# Altium schematic symbol library Symbols.SchLib: 58 symbols
Pins are listed as number, name and electrical type; pins without a type are passive.

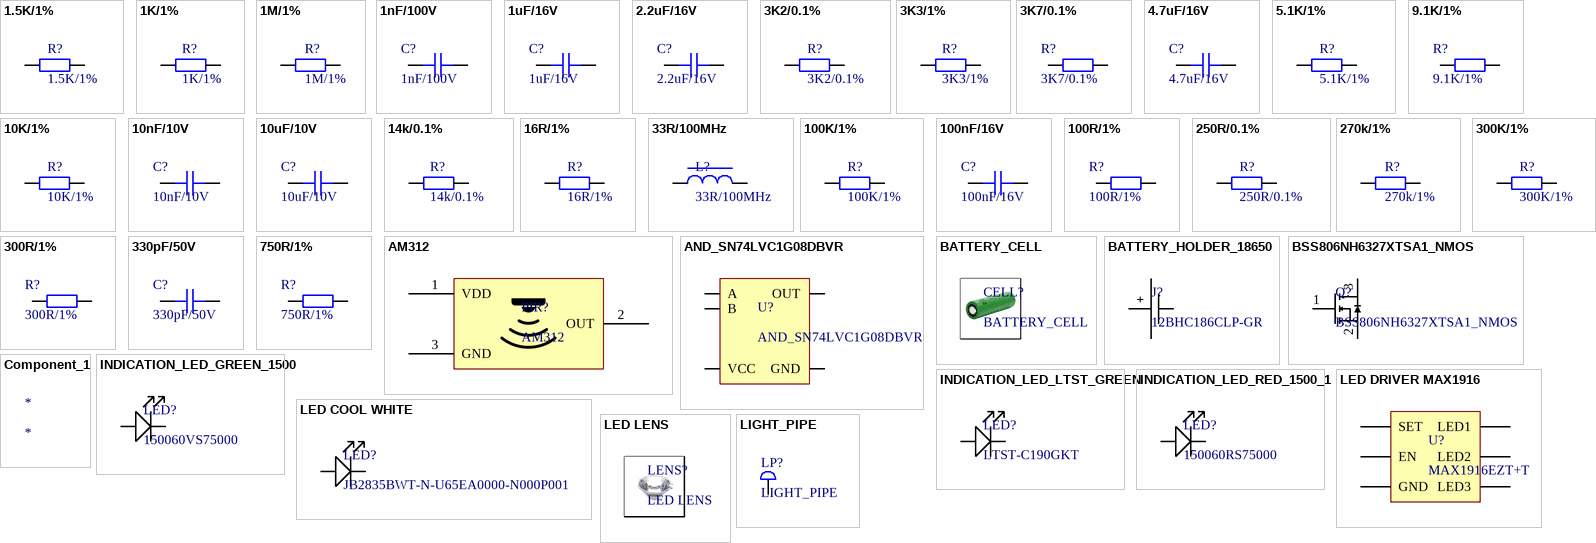
[diagram p0: symbols 1.5K/1% to LIGHT_PIPE]

## 1.5K/1%
designator R?
1.5 kOhms ±1% 0.1W, 1/10W Chip Resistor 0603 (1608 Metric) Automotive AEC-Q200 Thick Film; MPN: ERJ-3EKF1501V
footprint RES_0603
pins: 1, 2

## 1K/1%
designator R?
1 kOhms ±1% 0.1W, 1/10W Chip Resistor 0603 (1608 Metric) Moisture Resistant Thick Film; MPN: RC0603FR-071KL
footprint RES_0603
pins: 1, 2

## 1M/1%
designator R?
1 MOhms ±1% 0.1W, 1/10W Chip Resistor 0603 (1608 Metric) Automotive AEC-Q200 Thick Film; MPN: RMCF0603FT1M00
footprint RES_0603
pins: 1, 2

## 1nF/100V
designator C?
1 µF ±10% 10V Ceramic Capacitor X7R 0603 (1608 Metric); MPN: CL10B105KP8NNNC
footprint CAP_0603
pins: 1, 2

## 1uF/16V
designator C?
1 µF ±5% 16V Ceramic Capacitor X7R 0603 (1608 Metric); MPN: 0603YC105JAT2A
footprint CAP_0603
pins: 1, 2

## 2.2uF/16V
designator C?
2.2 µF ±10% 16V Ceramic Capacitor X7S 0603 (1608 Metric); MPN: GRM188C71C225KE11D
footprint CAP_0603
pins: 1, 2

## 3K2/0.1%
designator R?
3.2 kOhms ±0.1% 0.21W Chip Resistor 0603 (1608 Metric) Anti-Sulfur, Automotive AEC-Q200, Moisture Resistant Thin Film; MPN: TNPW06033K20BEEN
footprint RES_0603
pins: 1, 2

## 3K3/1%
designator R?
3.3 kOhms ±1% 0.1W, 1/10W Chip Resistor 0603 (1608 Metric) Automotive AEC-Q200 Thick Film; MPN: RMCF0603FT3K30
footprint RES_0603
pins: 1, 2

## 3K7/0.1%
designator R?
3.7 kOhms ±0.1% 0.125W, 1/8W Chip Resistor 0603 (1608 Metric) Automotive AEC-Q200, Moisture Resistant Thin Film; MPN: RN73R1JTTD3701B25
footprint RES_0603
pins: 1, 2

## 4.7uF/16V
designator C?
4.7 µF ±10% 16V Ceramic Capacitor X5R 0603 (1608 Metric); MPN: CL10A475KO8NNNC
footprint CAP_0603
pins: 1, 2

## 5.1K/1%
designator R?
5.1 kOhms ±1% 0.1W, 1/10W Chip Resistor 0603 (1608 Metric) Moisture Resistant Thick Film; MPN: RC0603FR-075K1L
footprint RES_0603
pins: 1, 2

## 9.1K/1%
designator R?
9.1 kOhms ±1% 0.1W, 1/10W Chip Resistor 0603 (1608 Metric) Thick Film; MPN: CRCW06039K10FKEAC
footprint RES_0603
pins: 1, 2

## 10K/1%
designator R?
10 kOhms ±1% 0.1W, 1/10W Chip Resistor 0603 (1608 Metric) Moisture Resistant Thick Film; MPN: CR0603-FX-1002ELF
footprint RES_0603
pins: 1, 2

## 10nF/10V
designator C?
10000 pF ±10% 50V Ceramic Capacitor X7R 0603 (1608 Metric); MPN: 0603B103K500CT
footprint CAP_0603
pins: 1, 2

## 10uF/10V
designator C?
10 µF ±10% 10V Ceramic Capacitor X5R 0603 (1608 Metric); MPN: CL10A106KP8NNNC
footprint CAP_0603
pins: 1, 2

## 14k/0.1%
designator R?
14 kOhms ±0.1% 0.5W, 1/2W Chip Resistor 0603 (1608 Metric) Thin Film; MPN: RA73F1J14KBTD
footprint RES_0603
pins: 1, 2

## 16R/1%
designator R?
16 Ohms ±1% 0.333W, 1/3W Chip Resistor 0603 (1608 Metric) Automotive AEC-Q200, Pulse Withstanding Thick Film; MPN: ERJ-PA3F16R0V
footprint RES_0603
pins: 1, 2

## 33R/100MHz
designator L?
33 Ohms @ 100 MHz 1 Power Line Ferrite Bead 0603 (1608 Metric) 3A 25mOhm; MPN: BLM18PG330SN1DBLM18PG330SN1D
footprint INDC_0603
pins: 1, 2

## 100K/1%
designator R?
100 kOhms ±1% 0.1W, 1/10W Chip Resistor 0603 (1608 Metric) Automotive AEC-Q200 Thick Film; MPN: ERJ-3EKF1003V
footprint RES_0603
pins: 1, 2

## 100nF/16V
designator C?
0.1 µF ±10% 16V Ceramic Capacitor X7R 0603 (1608 Metric); MPN: CC0603KRX7R7BB104
footprint CAP_0603
pins: 1, 2

## 100R/1%
designator R?
100 Ohms ±1% 0.1W, 1/10W Chip Resistor 0603 (1608 Metric) Automotive AEC-Q200 Thick Film; MPN: ERJ-3EKF1000V
footprint RES_0603
pins: 1, 2

## 250R/0.1%
designator R?
250 Ohms ±0.1% 0.1W, 1/10W Chip Resistor 0603 (1608 Metric) Thin Film; MPN: RT0603BRE07250RL
footprint RES_0603
pins: 1, 2

## 270k/1%
designator R?
270 kOhms ±1% 0.1W, 1/10W Chip Resistor 0603 (1608 Metric) Automotive AEC-Q200 Thick Film; MPN: ERJ-3EKF2703V
footprint RES_0603
pins: 1, 2

## 300K/1%
designator R?
300 kOhms ±1% 0.1W, 1/10W Chip Resistor 0603 (1608 Metric) Automotive AEC-Q200 Thick Film; MPN: RMCF0603FT300K
footprint RES_0603
pins: 1, 2

## 300R/1%
designator R?
300 Ohms ±1% 0.1W, 1/10W Chip Resistor 0603 (1608 Metric) Automotive AEC-Q200 Thick Film; MPN: ERJ-3EKF3000V
footprint RES_0603
pins: 1, 2

## 330pF/50V
designator C?
330 pF ±10% 50V Ceramic Capacitor X7R 0603 (1608 Metric); MPN: C0603C331K5RACTU
footprint CAP_0603
pins: 1, 2

## 750R/1%
designator R?
750 Ohms ±1% 0.1W, 1/10W Chip Resistor 0603 (1608 Metric) Automotive AEC-Q200 Thick Film; MPN: ERJ-3EKF7500V
footprint RES_0603
pins: 1, 2

## AM312
designator PIR?
AM312 PIR sensor; ComponentLink1Description: MPN; ComponentLink1URL: RAK12006-0-WB-N
footprint AM312
pins: 1 VDD, 2 OUT, 3 GND

## AND_SN74LVC1G08DBVR
designator U?
AND Gate IC 1 Channel SOT-23-5; MPN: SN74LVC1G08DBVR
footprint SOT23-5
pins: 1 A, 2 B, 3 GND, 4 OUT, 5 VCC

## BATTERY_CELL
designator CELL?  (mechanical)
CELL 18650 SAMSUNG 3200mAh; MPN: *

## BATTERY_HOLDER_18650
designator J?, comment 12BHC186CLP-GR
Cylindrical Battery Contacts, Clips, Holders & Springs 18650 Holder Board Mount Clip; MPN: 12BHC186CLP-GR
footprint BATTERY_HOLDER_18650
pins: 1 +, 2 -

## BSS806NH6327XTSA1_NMOS
designator Q?
N-Channel 20 V 2.3A (Ta) 500mW (Ta) Surface Mount PG-SOT23; MPN: BSS806NH6327XTSA1
footprint SOT23-3
pins: 1 11, 2, 3

## Component_1
designator *
MPN: *

## INDICATION_LED_GREEN_1500
designator LED?, comment 150060VS75000
Green 570nm LED Indication - Discrete 2V 0603 (1608 Metric); MPN: 150060VS75000
footprint LED_0603
pins: 1 Anode, 2 Cathode

## INDICATION_LED_LTST_GREEN
designator LED?, comment LTST-C190GKT
Green 569nm LED Indication - Discrete 2.1V 0603 (1608 Metric); MPN: LTST-C190GKT
footprint LED_0603
pins: 1 Anode, 2 Cathode

## INDICATION_LED_RED_1500_1
designator LED?, comment 150060RS75000
Red 625nm LED Indication - Discrete 2V 0603 (1608 Metric); MPN: 150060RS75000
footprint LED_0603
pins: 1 Anode, 2 Cathode

## LED COOL WHITE
designator LED?, comment JB2835BWT-N-U65EA0000-N000P001
LED Lighting J White, Cool 6500K 3-Step MacAdam Ellipse 2.7V 55mA 120° 1411 (3528 Metric); MPN: JB2835BWT-N-U65EA0000-N000P001
footprint LED_1411
pins: 1 Anode, 2 Cathode

## LED DRIVER MAX1916
designator U?, comment MAX1916EZT+T
LED Driver IC 3 Output Linear Dimming 60mA TSOT-23-6; MPN: MAX1916EZT+T
footprint SOT23-6
pins: 1 EN, 2 GND, 3 SET, 4 LED3, 5 LED2, 6 LED1

## LED LENS
designator LENS?  (net tie)
LENS CLR 15-33DEG MEDIUM SNAP-IN; MPN: 10003/15

## LIGHT_PIPE
designator LP?
Light pipe for indication led; MPN: VLP-400-F
footprint LIGHT_PIPE_VLP-400-F
pins: 1

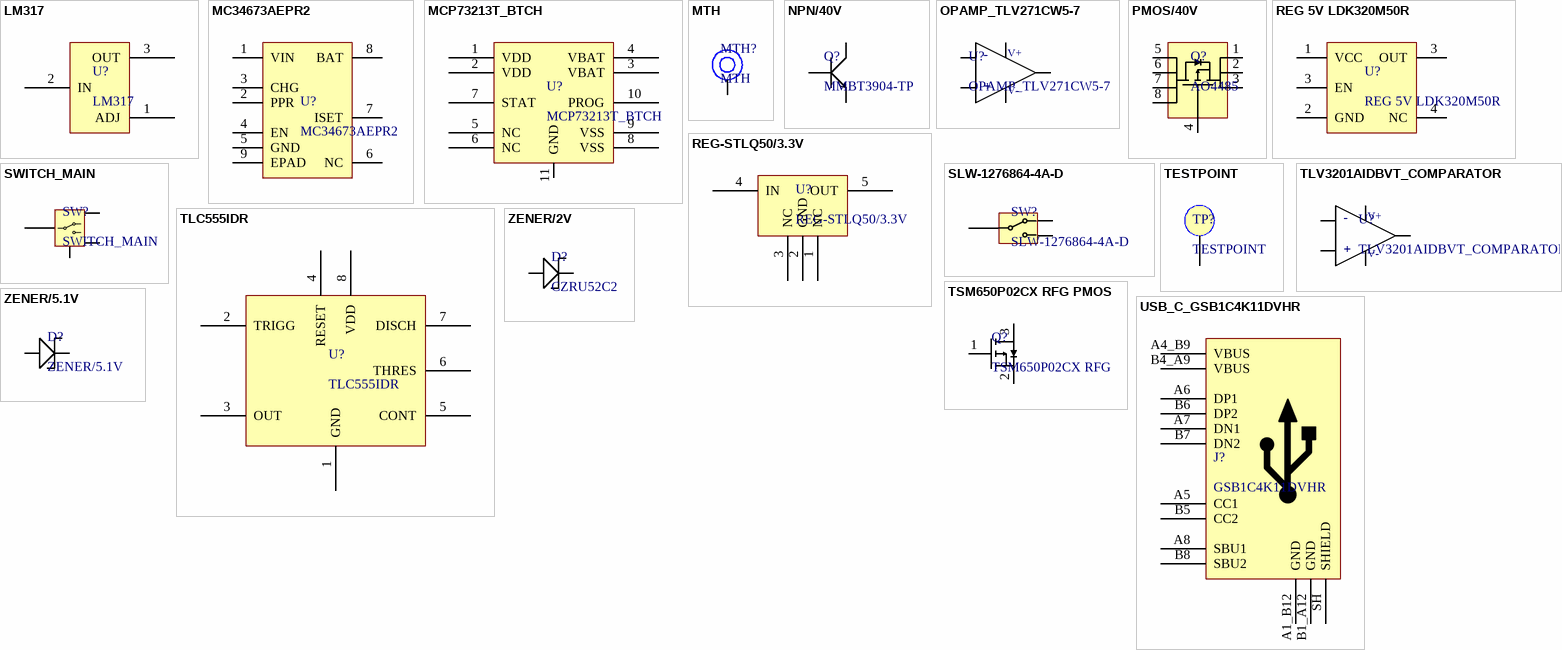
[diagram p1: symbols LM317 to ZENER/5.1V]

## LM317
designator U?
Linear Voltage Regulator IC Positive Adjustable 1 Output 500mA DPAK; MPN: *LM317MDT-TR
footprint DPAK
pins: 1 ADJ, 2 IN, 3 OUT

## MC34673AEPR2
designator U?
Charger IC Lithium Ion/Polymer 8-UDFN (3x2); MPN: MC34673AEPR2
footprint UDFN 8
pins: 1 VIN, 2 PPR, 3 CHG, 4 EN, 5 GND, 6 NC, 7 ISET, 8 BAT, 9 EPAD

## MCP73213T_BTCH
designator U?
Charger IC Lithium Ion/Polymer 10-DFN (3x3); MPN: MCP73213T-A61I/MF
footprint 10_LEAD_PLASTIC_DFN
pins: 1 VDD, 2 VDD, 3 VBAT, 4 VBAT, 5 NC, 6 NC, 7 STAT, 8 VSS, 9 VSS, 10 PROG, 11 GND

## MTH
designator MTH?  (no BOM)
Mounting hole; MPN: *
footprint MOUNTING_HOLE_M3
pins: 1

## NPN/40V
designator Q?, comment MMBT3904-TP
Bipolar (BJT) Transistor NPN 40 V 200 mA 300MHz 350 mW Surface Mount SOT-23; MPN: MMBT3904-TP
footprint SOT23-3
pins: 1 B, 2 C, 3 E

## OPAMP_TLV271CW5-7
designator U?
CMOS Amplifier 1 Circuit Rail-to-Rail SOT-25; MPN: TLV271CW5-7
footprint SOT25-5
pins: 1 OUT, 2 -VDD, 3 +, 4 -, 5 +VDD
text: V+; V-

## PMOS/40V
designator Q?, comment AO4485
P-Channel 40 V 10A (Ta) 1.7W (Ta) Surface Mount 8-SOIC; MPN: AO4485
footprint 8-SOIC
pins: 1 S, 2 S, 3 S, 4 G, 5 D, 6 D, 7 D, 8 D

## REG 5V LDK320M50R
designator U?
Linear Voltage Regulator IC Positive Fixed 1 Output 200mA SOT-23-5; MPN: LDK320M50R
footprint SOT23-5
pins: 1 VCC, 2 GND, 3 EN, 3 OUT, 4 NC

## REG-STLQ50/3.3V
designator U?
IC REG LINEAR 3.3V 50MA SOT323-5; MPN: STLQ50C33R
footprint SOT323-5
pins: 1 NC, 2 GND, 3 NC, 4 IN, 5 OUT

## SLW-1276864-4A-D
designator SW?
SWITCH SLIDE SPDT 0.5A 30V VERTICAL; MPN: SLW-1276864-4A-D
footprint SWITCH-SLW-1276864-4A-D_VERTICAL
pins: 1 1P, 2 2T, 3 3T

## SWITCH_MAIN
designator SW?
SWITCH SLIDE SPDT 300MA 30V; MPN: SK-12F17-G 7
footprint SWITCH_SK-12F17-G_HORIZONTAL
pins: 1 1P, 2 2T, 3 3T, 4 GND

## TESTPOINT
designator TP?
White PC Test Point, Miniature Phosphor Bronze Silver Plating Through Hole Mounting Type; MPN: 5002
footprint TESTPOINT
pins: 1 TP

## TLC555IDR
designator U?
555 Type, Timer/Oscillator (Single) IC 2.1MHz 8-SOIC; MPN: TLC555IDR
footprint 8-SOIC
pins: 1 GND, 2 TRIGG, 3 OUT, 4 RESET, 5 CONT, 6 THRES, 7 DISCH, 8 VDD

## TLV3201AIDBVT_COMPARATOR
designator U?
Comparator General Purpose Push-Pull SOT-23-5; MPN: TLV3201AIDBVT
footprint SOT23-5
pins: 1 OUT, 2 -VDD, 3 +, 4 -, 5 +VDD
text: V+; V-

## TSM650P02CX RFG PMOS
designator Q?, comment TSM650P02CX RFG
P-Channel 20 V 4.1A (Tc) 1.56W (Tc) Surface Mount SOT-23; MPN: TSM650P02CX RFG
footprint SOT23-3
pins: 1, 2, 3

## USB_C_GSB1C4K11DVHR
designator J?, comment GSB1C4K11DVHR
USB-C (USB TYPE-C) USB 2.0 Receptacle Connector 24 (16+8 Dummy) Position Through Hole, Right Angle; MPN: GSB1C4K11DVHR
footprint USBC_GSB1C4K11DVHR
pins: A1_B12 GND, A4_B9 VBUS, A5 CC1, A6 DP1, A7 DN1, A8 SBU1, B1_A12 GND, B4_A9 VBUS, B5 CC2, B6 DP2, B7 DN2, B8 SBU2, SH SHIELD

## ZENER/2V
designator D?, comment CZRU52C2
Zener Diode 2 V 150 mW ±5% Surface Mount 0603/SOD-523F; MPN: CZRU52C2
footprint ZENER_0603
pins: 1 Anode, 2 Cathode

## ZENER/5.1V
designator D?
Zener Diode 5.1 V 1.5 W ±5% Surface Mount SMA; MPN: 1SMA5918BT3G
footprint ZENER_SMA
pins: 1 Anode, 2 Cathode